# EAGLE library part TRAFO-BLOCK-FLE4/X (library 1A-meinLib)
Sicherheitstransformator, VDE 0570, 4VA, (2x6V, 2x8V, 2x9V, 2x12V), 180g FLE 4/6, FLE 4/8, FLE 4/9, FLE 4/12
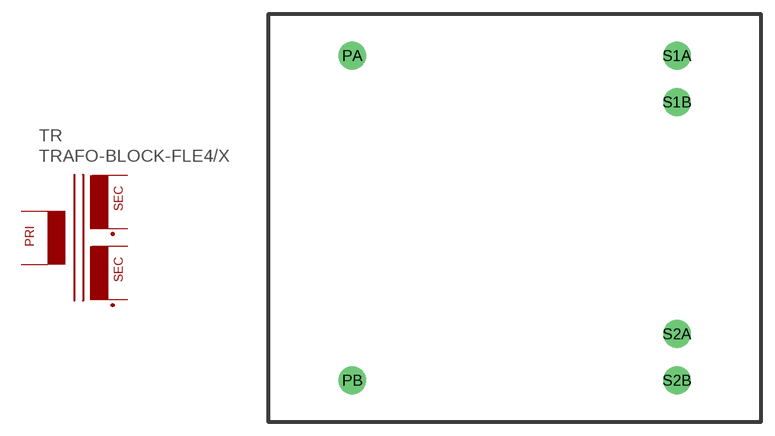
[diagram p315: symbol with the pads of TRAFO-BLOCK_FLE4-6; footprint TRAFO-BLOCK_FLE4-6]

Designator prefix TR

## TRAFO-BLOCK-FLE4/X  [TRAFO-BLOCK_FLE4-6]
PA  PA  pas
PB  PB  pas
S1A  S1A  pas
S1B  S1B  pas
S2A  S2A  pas
S2B  S2B  pas

## Footprint TRAFO-BLOCK_FLE4-6 (pad centres in mm)
Sicherheitstransformator, VDE 0570, 4VA, (2x6V; 2x8V; 2x9V; 2x12V), 180g
drill 1.2 pad 3 round: PA -17.5,17.5; PB -17.5,-17.5; S1A 17.5,17.5; S1B 17.5,12.5; S2A 17.5,-12.5; S2B 17.5,-17.5